# Altium footprint library lib_connectors.PcbLib: 2 footprints
Each footprint in its own frame and in the unit in brackets; x right, y up, seen from the top. Pads: shape width x height; smd on the part's side, far side on the other; paste and mask are expansions set on the pad; w line width, h text height; cw(c..) or ccw(c..) is an arc to the next point about the centre after c.
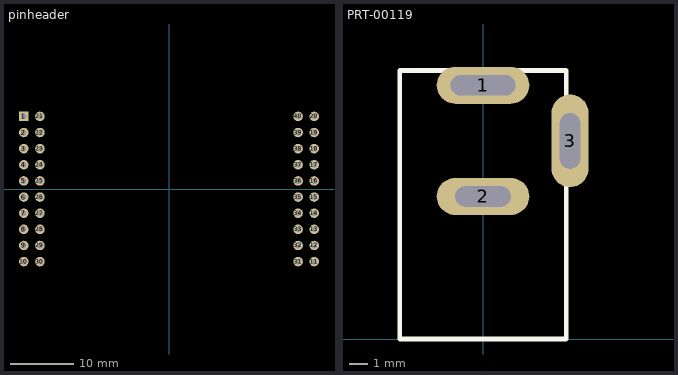
[diagram p0: the footprints below, top view; thin cyan lines are the x and y axes]

## pinheader [mm]
pads (40):
  rect 1.5x1.5 hole 0.9: 1(-22.86,11.43)
  round 1.5 hole 0.9: 2(-22.86,8.89) 3(-22.86,6.35) 4(-22.86,3.81) 5(-22.86,1.27) 6(-22.86,-1.27) 7(-22.86,-3.81) 8(-22.86,-6.35) 9(-22.86,-8.89) 10(-22.86,-11.43) 11(22.86,-11.43) 12(22.86,-8.89) 13(22.86,-6.35) 14(22.86,-3.81) 15(22.86,-1.27) 16(22.86,1.27) 17(22.86,3.81) 18(22.86,6.35) 19(22.86,8.89) 20(22.86,11.43) 21(-20.32,11.43) 22(-20.32,8.89) 23(-20.32,6.35) 24(-20.32,3.81) 25(-20.32,1.27) 26(-20.32,-1.27) 27(-20.32,-3.81) 28(-20.32,-6.35) 29(-20.32,-8.89) 30(-20.32,-11.43) 31(20.32,-11.43) 32(20.32,-8.89) 33(20.32,-6.35) 34(20.32,-3.81) 35(20.32,-1.27) 36(20.32,1.27) 37(20.32,3.81) 38(20.32,6.35) 39(20.32,8.89) 40(20.32,11.43)

## PRT-00119 [mm]
pads (3):
  oval 5x2 hole 1.1 slot 3.5 at 0 deg: 1(0,13.7)
  oval 5x2 hole 1.1 slot 3 at 0 deg: 2(0,7.7)
  oval 2x5 hole 1.1 slot 3 at 90 deg: 3(4.7,10.7)
Top Overlay:
  lines w0.254: -4.5,0 4.5,0 4.5,14.5 -4.5,14.5 -4.5,0